# Altium integrated library Analog Devices Data Converters Digital-to-Analog Converters.IntLib: 2231 symbols (part 115 of 181)
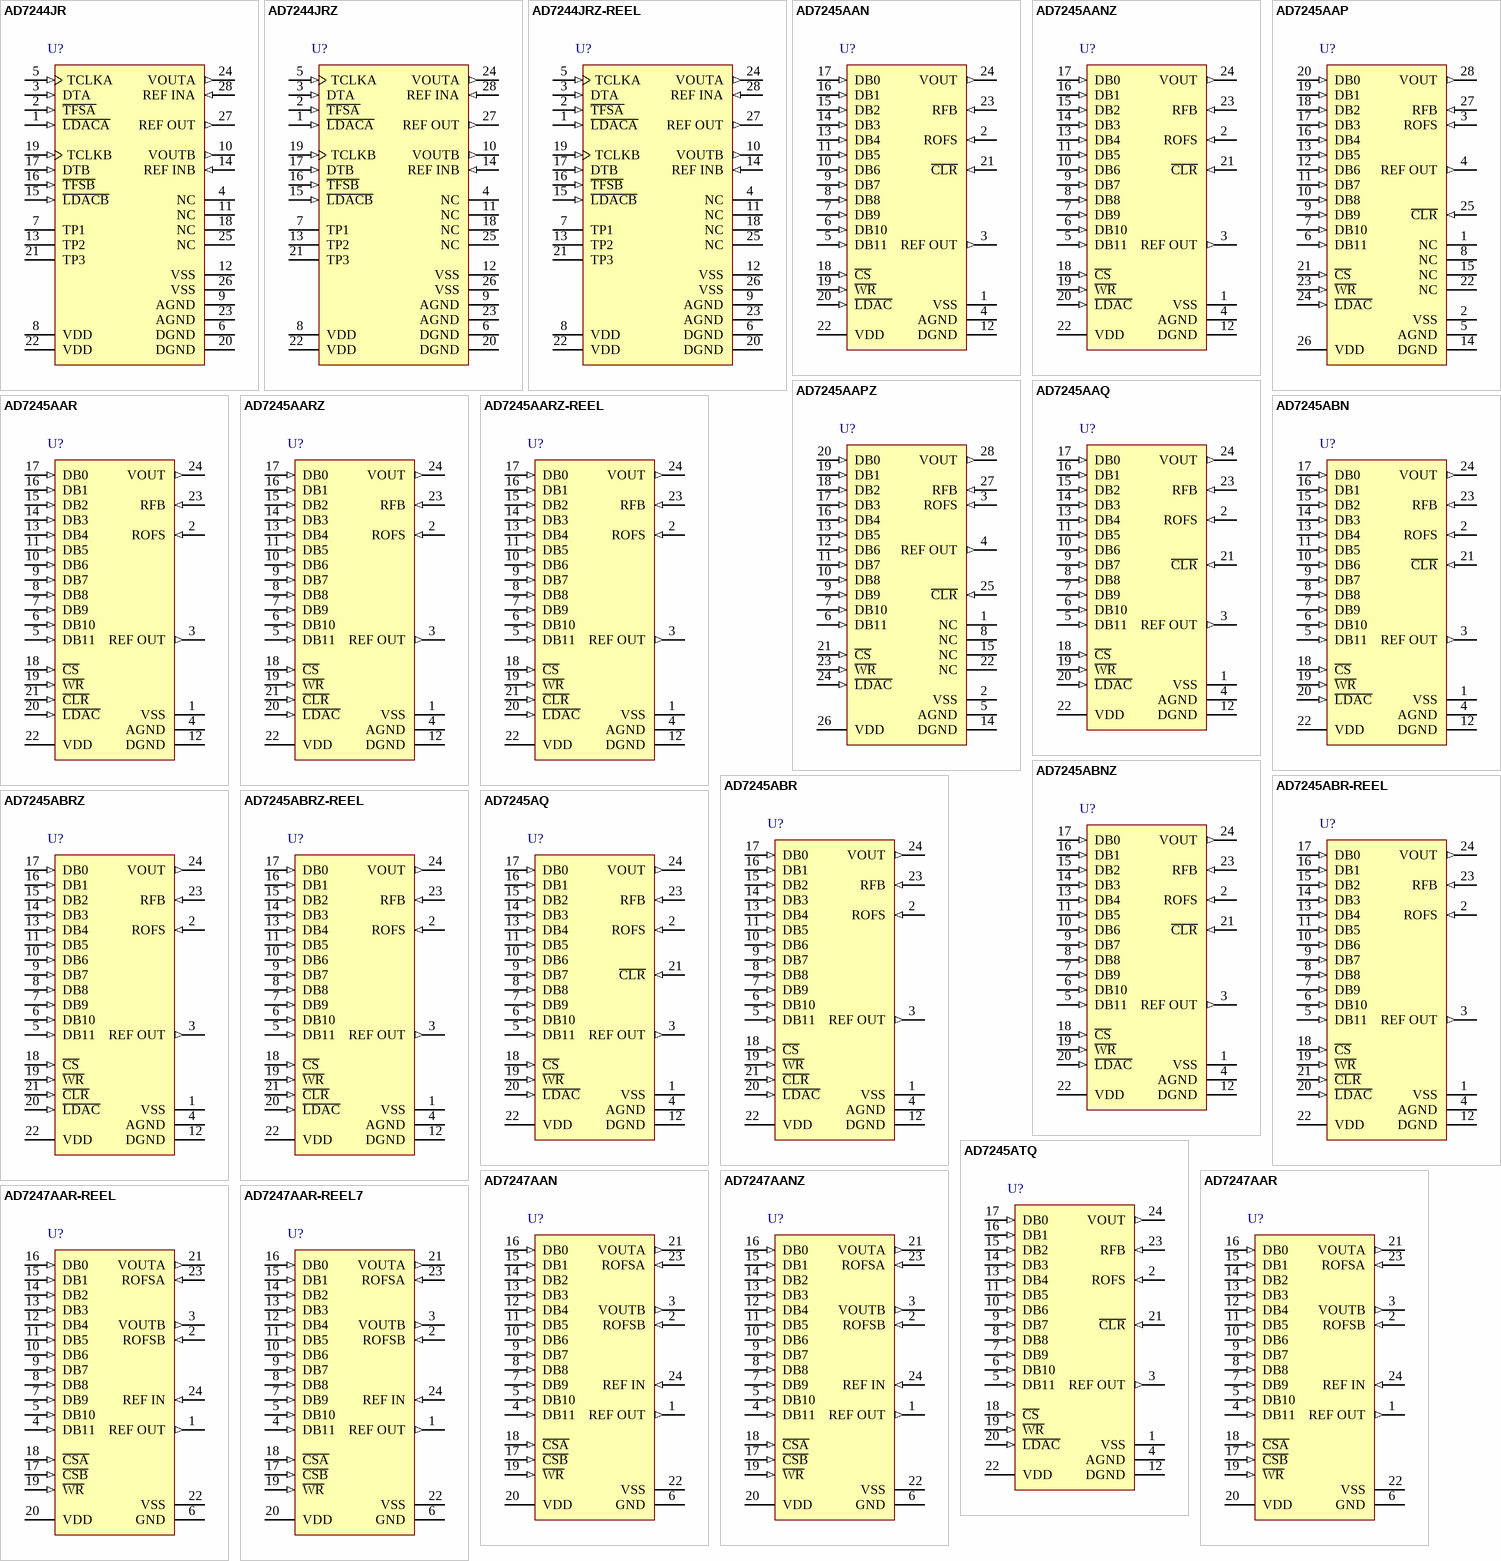
[diagram p228: symbols AD7244JR to AD7247AAR-REEL7]

## AD7244JRZ-REEL
designator U?
Dual 14-Bit LC2MOS Digital-to-Analog Converter, 0 to +70 degC, RW-28, Pb-Free, Reel; Generic Part Number: AD7244; Manufacturer: Analog Devices; PartNumber: AD7244JRZ-REEL; # DAC Outputs: 2; Max V+: 5.25V; Op Pwr Diss: 195mW; Resolution (Bits): 14; Settling Time: 4µs; Single Supply: No; DatasheetVersion: Rev.A; PackageVersion: 060706-A; PackageReference: RW-28; PackageDescription: 28-Lead Standard Small Outline Package [SOIC_W]; Supplier 1: Digi-Key; Supplier Part Number 1: AD7244JRZ-REEL-ND; Supplier 2: Mouser; Supplier Part Number 2: 584-AD7244JRZ-R; Packing: Reel; RoHS: Y; Mounting Technology: Surface Mount; Code_JEDEC: MS-013-AE; ComponentLink1Description: Manufacturer URL; ComponentLink1URL: http://www.analog.com/en/index.html; ComponentLink2Description: Datasheet; ComponentLink2URL: http://www.analog.com/static/imported-files/data_sheets/AD7242_7244.pdf; ComponentLink3Description: Product URL; ComponentLink3URL: http://www.analog.com/en/digital-to-analog-converters/da-converters/ad7244/products/product.html
footprint RW-28_N (SOIC, 28-Leads, Body 17.9x7.5mm, Pitch 1.27mm, IPC Medium Density)
footprint RW-28_L (SOIC, 28-Leads, Body 17.9x7.5mm, Pitch 1.27mm, IPC High Density)
footprint RW-28_M (SOIC, 28-Leads, Body 17.9x7.5mm, Pitch 1.27mm, IPC Low Density)
pins: 1 ~{LDACA} (in) "Load DAC, Logic Input. A new word is transferred into DAC Latch A from input Latch A on the falling edge of this signal. If L\D\A\C\A\ is hard-wired low, data is transferred from input Latch A to DAC Latch A on the sixteenth (See Datasheet)", 2 ~{TFSA} (in) "Transmit Frame Synchronization, Logic Input. This is a frame or synchronization signal for DACA data with serial data expected after the falling edge of this signal.", 3 DTA (in) "Transmit Data, Logic Input. This is the data input which is used in conjunction with T\F\S\A\ and TCLKA to transfer serial data to input Latch A.", 4 NC "No Connect.", 5 TCLKA (in) "Transmit Clock, Logic Input. Serial data bits for DACA are latched on the falling edge of TCLKA when T\F\S\A\ is low.", 6 DGND (power) "Digital Ground. Both DGND pins for the device must be tied together at the device.", 7 TP1 "Test Pin 1. Used when testing the device. Do not connect anything to this pin.", 8 VDD (power) "Positive Power Supply, 5 V +/- 5%. Both VDD pins for the device must be tied together at the device.", 9 AGND (power) "Analog Ground. Both AGND pins for the device must be tied together at the device.", 10 VOUTB (out) "Analog Output Voltage from DACB. This output comes from a buffer amplifier. The range is bipolar, +/-3 V with REF INB = +3 V.", 11 NC "No Connect.", 12 VSS (power) "Negative Power Supply, -5 V +/- 5%. Both VSS pins for the device must be tied together at the device.", 13 TP2 "Test Pin 2. Used when testing the device. Do not connect anything to this pin.", 14 REF INB (in) "DACB Voltage Reference Input. The voltage reference for DACB is applied to this pin. It is internally buffered before being applied to DACB. The nominal reference voltage for correct operation of the AD7244 is 3 V.", 15 ~{LDACB} (in) "Load DAC, Logic Input. A new word is transferred into DAC Latch B from input Latch B on the falling edge of this signal. If L\D\A\C\B\ is hard-wired low, data is transferred from input Latch B to DAC Latch B on the sixteenth (See Datasheet)", 16 ~{TFSB} (in) "Transmit Frame Synchronization, Logic Input. This is a frame or synchronization signal for DACB data with serial data expected after the falling edge of this signal.", 17 DTB (in) "Transmit Data, Logic Input. This is the data input used in conjunction with T\F\S\B\ and TCLKB to transfer serial data to input Latch B.", 18 NC "No Connect.", 19 TCLKB (in) "Transmit Clock, Logic Input. Serial data bits for DACB are latched on the falling edge of TCLKB when T\F\S\B\ is low.", 20 DGND (power) "Digital Ground. Both DGND pins for the device must be tied together at the device.", 21 TP3 "Test Pin 3. Used when testing the device. Do not connect anything to this pin.", 22 VDD (power) "Positive Power Supply, 5 V +/- 5%. Both VDD pins for the device must be tied together at the device", 23 AGND (power) "Analog Ground. Both AGND pins for the device must be tied together at the device.", 24 VOUTA (out) "Analog Output Voltage from DACA. This output comes from a buffer amplifier. The range is bipolar, +/-3 V with REF INA = +3 V.", 25 NC "No Connect.", 26 VSS (power) "Negative Power Supply, -5 V +/- 5%. Both VSS pins for the device must be tied together at the device.", 27 REF OUT (out) "Voltage Reference Output. To operate the DACs with this internal reference, REF OUT should be connected to both REF INA and REF INB. The external load capability of the reference is 500 uA.", 28 REF INA (in) "DACA Voltage Reference Input. The voltage reference for DACA is applied to this pin. It is internally buffered before being applied to DACA. The nominal reference voltage for correct operation of the AD7244 is 3 V."

## AD7245AAN
designator U?
Single 12-Bit LC2MOS DACPORT, -40 to +85 degC, N-24-1, Tube; Generic Part Number: AD7245A; Manufacturer: Analog Devices; PartNumber: AD7245AAN; # DAC Outputs: 1; Max V+: +16.5V; Resolution (Bits): 12; Settling Time: 7µs; Single Supply: Yes; DatasheetVersion: Rev.B; PackageVersion: 071006-A; PackageReference: N-24-1; PackageDescription: 24-Lead Plastic Dual In-Line Package [PDIP] Narrow Body; Supplier 1: Digi-Key; Supplier Part Number 1: AD7245AAN-ND; Supplier 2: Mouser; Supplier Part Number 2: 584-AD7245AAN; Packing: Tube; RoHS: N; Mounting Technology: Through Hole; Code_JEDEC: MS-001; ComponentLink1Description: Manufacturer URL; ComponentLink1URL: http://www.analog.com/en/index.html; ComponentLink2Description: Datasheet; ComponentLink2URL: http://www.analog.com/static/imported-files/data_sheets/AD7245A_7248A.pdf; ComponentLink3Description: Package Specification; ComponentLink3URL: http://www.analog.com/static/imported-files/packages/50726455539629N_24_1.pdf; ComponentLink4Description: Product URL; ComponentLink4URL: http://www.analog.com/en/digital-to-analog-converters/da-converters/ad7245a/products/product.html
footprint N-24-1 (DIP, 24-Leads, Row Spacing 7.62mm, Pitch 2.54mm, Body 31.9x6.6mm)
pins: 1 VSS (power) "Negative Supply Voltage (0 V for single supply operation).", 2 ROFS (in) "Bipolar Offset Resistor. This provides access to the on-chip application resistors and allows different output voltage ranges.", 3 REF OUT (out) "Reference Output. The on-chip reference is provided at this pin and is used when configuring the part for bipolar outputs.", 4 AGND (power) "Analog Ground.", 5 DB11 (in) "Data Bit 11. Most Significant Bit (MSB).", 6 DB10 (in) "Data Bit 10", 7 DB9 (in) "Data Bit 9", 8 DB8 (in) "Data Bit 8", 9 DB7 (in) "Data Bit 7", 10 DB6 (in) "Data Bit 6", 11 DB5 (in) "Data Bit 5", 12 DGND (power) "Digital Ground.", 13 DB4 (in) "Data Bit 4", 14 DB3 (in) "Data Bit 3", 15 DB2 (in) "Data Bit 2", 16 DB1 (in) "Data Bit 1", 17 DB0 (in) "Data Bit 0. Least Significant Bit (LSB).", 18 ~{CS} (in) "Chip Select Input (Active LOW). The device is selected when this input is active.", 19 ~{WR} (in) "Write Input (Active LOW). This is used in conjunction with C\S\ to write data into the input latch of the AD7245A.", 20 ~{LDAC} (in) "Load DAC Input (Active LOW). This is an asynchronous input which when active transfers data from the input latch to the DAC latch.", 21 ~{CLR} (in) "Clear Input (Active LOW). When this input is active the contents of the DAC latch are reset to all 0s.", 22 VDD (power) "Positive Supply Voltage.", 23 RFB (in) "Feedback Resistor. This allows access to the amplifier’s feedback loop.", 24 VOUT (out) "Output Voltage. Three different output voltage ranges can be chosen: 0 V to 5 V, 0 V to 10 V or -5 V to +5 V."

## AD7245AANZ
designator U?
Single 12-Bit LC2MOS DACPORT, -40 to +85 degC, N-24-1, Pb-Free, Tube; Generic Part Number: AD7245A; Manufacturer: Analog Devices; PartNumber: AD7245AANZ; # DAC Outputs: 1; Max V+: +16.5V; Resolution (Bits): 12; Settling Time: 7µs; Single Supply: Yes; DatasheetVersion: Rev.B; PackageVersion: 071006-A; PackageReference: N-24-1; PackageDescription: 24-Lead Plastic Dual In-Line Package [PDIP] Narrow Body; Supplier 1: Digi-Key; Supplier Part Number 1: AD7245AANZ-ND; Supplier 2: Farnell; Supplier Part Number 2: 1438393; Supplier 3: Newark; Supplier Part Number 3: 59K4615; Supplier 4: Mouser; Supplier Part Number 4: 584-AD7245AANZ; Packing: Tube; RoHS: Y; Mounting Technology: Through Hole; Code_JEDEC: MS-001; ComponentLink1Description: Manufacturer URL; ComponentLink1URL: http://www.analog.com/en/index.html; ComponentLink2Description: Datasheet; ComponentLink2URL: http://www.analog.com/static/imported-files/data_sheets/AD7245A_7248A.pdf; ComponentLink3Description: Package Specification; ComponentLink3URL: http://www.analog.com/static/imported-files/packages/50726455539629N_24_1.pdf; ComponentLink4Description: Product URL; ComponentLink4URL: http://www.analog.com/en/digital-to-analog-converters/da-converters/ad7245a/products/product.html
footprint N-24-1 (DIP, 24-Leads, Row Spacing 7.62mm, Pitch 2.54mm, Body 31.9x6.6mm)
pins: 1 VSS (power) "Negative Supply Voltage (0 V for single supply operation).", 2 ROFS (in) "Bipolar Offset Resistor. This provides access to the on-chip application resistors and allows different output voltage ranges.", 3 REF OUT (out) "Reference Output. The on-chip reference is provided at this pin and is used when configuring the part for bipolar outputs.", 4 AGND (power) "Analog Ground.", 5 DB11 (in) "Data Bit 11. Most Significant Bit (MSB).", 6 DB10 (in) "Data Bit 10", 7 DB9 (in) "Data Bit 9", 8 DB8 (in) "Data Bit 8", 9 DB7 (in) "Data Bit 7", 10 DB6 (in) "Data Bit 6", 11 DB5 (in) "Data Bit 5", 12 DGND (power) "Digital Ground.", 13 DB4 (in) "Data Bit 4", 14 DB3 (in) "Data Bit 3", 15 DB2 (in) "Data Bit 2", 16 DB1 (in) "Data Bit 1", 17 DB0 (in) "Data Bit 0. Least Significant Bit (LSB).", 18 ~{CS} (in) "Chip Select Input (Active LOW). The device is selected when this input is active.", 19 ~{WR} (in) "Write Input (Active LOW). This is used in conjunction with C\S\ to write data into the input latch of the AD7245A.", 20 ~{LDAC} (in) "Load DAC Input (Active LOW). This is an asynchronous input which when active transfers data from the input latch to the DAC latch.", 21 ~{CLR} (in) "Clear Input (Active LOW). When this input is active the contents of the DAC latch are reset to all 0s.", 22 VDD (power) "Positive Supply Voltage.", 23 RFB (in) "Feedback Resistor. This allows access to the amplifier’s feedback loop.", 24 VOUT (out) "Output Voltage. Three different output voltage ranges can be chosen: 0 V to 5 V, 0 V to 10 V or -5 V to +5 V."

## AD7245AAP
designator U?
Single 12-Bit LC2MOS DACPORT, -40 to +85 degC, P-28, Tube; Generic Part Number: AD7245A; Manufacturer: Analog Devices; PartNumber: AD7245AAP; # DAC Outputs: 1; Max V+: +16.5V; Resolution (Bits): 12; Settling Time: 7µs; Single Supply: Yes; DatasheetVersion: Rev.B; PackageVersion: 042508-A; PackageReference: P-28; PackageDescription: 28-Lead Plastic Leaded Chip Carrier [PLCC]; Supplier 1: Digi-Key; Supplier Part Number 1: AD7245AAP-ND; Supplier 2: Mouser; Supplier Part Number 2: 584-AD7245AAP; Packing: Tube; RoHS: N; Mounting Technology: Surface Mount; Code_JEDEC: MO-047-AB; ComponentLink1Description: Manufacturer URL; ComponentLink1URL: http://www.analog.com/en/index.html; ComponentLink2Description: Datasheet; ComponentLink2URL: http://www.analog.com/static/imported-files/data_sheets/AD7245A_7248A.pdf; ComponentLink3Description: Package Specification; ComponentLink3URL: http://www.analog.com/static/imported-files/packages/PKG_PDF/PLCC(P)/P_28.pdf; ComponentLink4Description: Product URL; ComponentLink4URL: http://www.analog.com/en/digital-to-analog-converters/da-converters/ad7245a/products/product.html
footprint P-28_N (Leaded Chip Carrier, 28-Leads, Body 11.5x11.5mm, Pitch 1.27mm, IPC Medium Density)
footprint P-28_L (Leaded Chip Carrier, 28-Leads, Body 11.5x11.5mm, Pitch 1.27mm, IPC High Density)
footprint P-28_M (Leaded Chip Carrier, 28-Leads, Body 11.5x11.5mm, Pitch 1.27mm, IPC Low Density)
pins: 1 NC "No Connect.", 2 VSS (power) "Negative Supply Voltage (0 V for single supply operation).", 3 ROFS (in) "Bipolar Offset Resistor. This provides access to the on-chip application resistors and allows different output voltage ranges.", 4 REF OUT (out) "Reference Output. The on-chip reference is provided at this pin and is used when configuring the part for bipolar outputs.", 5 AGND (power) "Analog Ground.", 6 DB11 (in) "Data Bit 11. Most Significant Bit (MSB).", 7 DB10 (in) "Data Bit 10.", 8 NC "No Connect.", 9 DB9 (in) "Data Bit 9.", 10 DB8 (in) "Data Bit 8.", 11 DB7 (in) "Data Bit 7.", 12 DB6 (in) "Data Bit 6.", 13 DB5 (in) "Data Bit 5.", 14 DGND (power) "Digital Ground.", 15 NC "No Connect.", 16 DB4 (in) "Data Bit 4", 17 DB3 (in) "Data Bit 3", 18 DB2 (in) "Data Bit 2", 19 DB1 (in) "Data Bit 1", 20 DB0 (in) "Data Bit 0. Least Significant Bit (LSB).", 21 ~{CS} (in) "Chip Select Input (Active LOW). The device is selected when this input is active.", 22 NC "No Connect.", 23 ~{WR} (in) "Write Input (Active LOW). This is used in conjunction with C\S\ to write data into the input latch of the AD7245A.", 24 ~{LDAC} (in) "Load DAC Input (Active LOW). This is an asynchronous input which when active transfers data from the input latch to the DAC latch.", 25 ~{CLR} (in) "Clear Input (Active LOW). When this input is active the contents of the DAC latch are reset to all 0s.", 26 VDD (power) "Positive Supply Voltage.", 27 RFB (in) "Feedback Resistor. This allows access to the amplifier’s feedback loop.", 28 VOUT (out) "Output Voltage. Three different output voltage ranges can be chosen: 0 V to 5 V, 0 V to 10 V or -5 V to +5 V."

## AD7245AAPZ
designator U?
Single 12-Bit LC2MOS DACPORT, -40 to +85 degC, P-28, Pb-Free, Tube; Generic Part Number: AD7245A; Manufacturer: Analog Devices; PartNumber: AD7245AAPZ; # DAC Outputs: 1; Max V+: +16.5V; Resolution (Bits): 12; Settling Time: 7µs; Single Supply: Yes; DatasheetVersion: Rev.B; PackageVersion: 042508-A; PackageReference: P-28; PackageDescription: 28-Lead Plastic Leaded Chip Carrier [PLCC]; Supplier 1: Digi-Key; Supplier Part Number 1: AD7245AAPZ-ND; Supplier 2: Farnell; Supplier Part Number 2: 1438394; Supplier 3: Newark; Supplier Part Number 3: 12M8738; Supplier 4: Mouser; Supplier Part Number 4: 584-AD7245AAPZ; Packing: Tube; RoHS: Y; Mounting Technology: Surface Mount; Code_JEDEC: MO-047-AB; ComponentLink1Description: Manufacturer URL; ComponentLink1URL: http://www.analog.com/en/index.html; ComponentLink2Description: Datasheet; ComponentLink2URL: http://www.analog.com/static/imported-files/data_sheets/AD7245A_7248A.pdf; ComponentLink3Description: Package Specification; ComponentLink3URL: http://www.analog.com/static/imported-files/packages/PKG_PDF/PLCC(P)/P_28.pdf; ComponentLink4Description: Product URL; ComponentLink4URL: http://www.analog.com/en/digital-to-analog-converters/da-converters/ad7245a/products/product.html
footprint P-28_N (Leaded Chip Carrier, 28-Leads, Body 11.5x11.5mm, Pitch 1.27mm, IPC Medium Density)
footprint P-28_L (Leaded Chip Carrier, 28-Leads, Body 11.5x11.5mm, Pitch 1.27mm, IPC High Density)
footprint P-28_M (Leaded Chip Carrier, 28-Leads, Body 11.5x11.5mm, Pitch 1.27mm, IPC Low Density)
pins: 1 NC "No Connect.", 2 VSS (power) "Negative Supply Voltage (0 V for single supply operation).", 3 ROFS (in) "Bipolar Offset Resistor. This provides access to the on-chip application resistors and allows different output voltage ranges.", 4 REF OUT (out) "Reference Output. The on-chip reference is provided at this pin and is used when configuring the part for bipolar outputs.", 5 AGND (power) "Analog Ground.", 6 DB11 (in) "Data Bit 11. Most Significant Bit (MSB).", 7 DB10 (in) "Data Bit 10.", 8 NC "No Connect.", 9 DB9 (in) "Data Bit 9.", 10 DB8 (in) "Data Bit 8.", 11 DB7 (in) "Data Bit 7.", 12 DB6 (in) "Data Bit 6.", 13 DB5 (in) "Data Bit 5.", 14 DGND (power) "Digital Ground.", 15 NC "No Connect.", 16 DB4 (in) "Data Bit 4", 17 DB3 (in) "Data Bit 3", 18 DB2 (in) "Data Bit 2", 19 DB1 (in) "Data Bit 1", 20 DB0 (in) "Data Bit 0. Least Significant Bit (LSB).", 21 ~{CS} (in) "Chip Select Input (Active LOW). The device is selected when this input is active.", 22 NC "No Connect.", 23 ~{WR} (in) "Write Input (Active LOW). This is used in conjunction with C\S\ to write data into the input latch of the AD7245A.", 24 ~{LDAC} (in) "Load DAC Input (Active LOW). This is an asynchronous input which when active transfers data from the input latch to the DAC latch.", 25 ~{CLR} (in) "Clear Input (Active LOW). When this input is active the contents of the DAC latch are reset to all 0s.", 26 VDD (power) "Positive Supply Voltage.", 27 RFB (in) "Feedback Resistor. This allows access to the amplifier’s feedback loop.", 28 VOUT (out) "Output Voltage. Three different output voltage ranges can be chosen: 0 V to 5 V, 0 V to 10 V or -5 V to +5 V."

## AD7245AAQ
designator U?
Single 12-Bit LC2MOS DACPORT, -40 to +85 degC, Q-24-1, Tube; Generic Part Number: AD7245A; Manufacturer: Analog Devices; PartNumber: AD7245AAQ; # DAC Outputs: 1; Max V+: +16.5V; Resolution (Bits): 12; Settling Time: 7µs; Single Supply: Yes; DatasheetVersion: Rev.B; PackageVersion: 100808-A; PackageReference: Q-24-1; PackageDescription: 24-Lead Ceramic Dual In-Line Package [CERDIP]; Supplier 1: Digi-Key; Supplier Part Number 1: AD7245AAQ-ND; Supplier 2: Mouser; Supplier Part Number 2: 584-AD7245AAQ; Packing: Tube; RoHS: N; Mounting Technology: Through Hole; ComponentLink1Description: Manufacturer URL; ComponentLink1URL: http://www.analog.com/en/index.html; ComponentLink2Description: Datasheet; ComponentLink2URL: http://www.analog.com/static/imported-files/data_sheets/AD7245A_7248A.pdf; ComponentLink3Description: Package Specification; ComponentLink3URL: http://www.analog.com/static/imported-files/packages/PKG_PDF/CERDIP(Q)/Q_24_1.pdf; ComponentLink4Description: Product URL; ComponentLink4URL: http://www.analog.com/en/digital-to-analog-converters/da-converters/ad7245a/products/product.html
footprint Q-24-1 (DIP, 24-Leads, Row Spacing 7.62mm, Pitch 2.54mm, Body 31.9x6.7mm)
pins: 1 VSS (power) "Negative Supply Voltage (0 V for single supply operation).", 2 ROFS (in) "Bipolar Offset Resistor. This provides access to the on-chip application resistors and allows different output voltage ranges.", 3 REF OUT (out) "Reference Output. The on-chip reference is provided at this pin and is used when configuring the part for bipolar outputs.", 4 AGND (power) "Analog Ground.", 5 DB11 (in) "Data Bit 11. Most Significant Bit (MSB).", 6 DB10 (in) "Data Bit 10", 7 DB9 (in) "Data Bit 9", 8 DB8 (in) "Data Bit 8", 9 DB7 (in) "Data Bit 7", 10 DB6 (in) "Data Bit 6", 11 DB5 (in) "Data Bit 5", 12 DGND (power) "Digital Ground.", 13 DB4 (in) "Data Bit 4", 14 DB3 (in) "Data Bit 3", 15 DB2 (in) "Data Bit 2", 16 DB1 (in) "Data Bit 1", 17 DB0 (in) "Data Bit 0. Least Significant Bit (LSB).", 18 ~{CS} (in) "Chip Select Input (Active LOW). The device is selected when this input is active.", 19 ~{WR} (in) "Write Input (Active LOW). This is used in conjunction with C\S\ to write data into the input latch of the AD7245A.", 20 ~{LDAC} (in) "Load DAC Input (Active LOW). This is an asynchronous input which when active transfers data from the input latch to the DAC latch.", 21 ~{CLR} (in) "Clear Input (Active LOW). When this input is active the contents of the DAC latch are reset to all 0s.", 22 VDD (power) "Positive Supply Voltage.", 23 RFB (in) "Feedback Resistor. This allows access to the amplifier’s feedback loop.", 24 VOUT (out) "Output Voltage. Three different output voltage ranges can be chosen: 0 V to 5 V, 0 V to 10 V or -5 V to +5 V."

## AD7245AAR
designator U?
Single 12-Bit LC2MOS DACPORT, -40 to +85 degC, RW-24, Tube; Generic Part Number: AD7245A; Manufacturer: Analog Devices; PartNumber: AD7245AAR; # DAC Outputs: 1; Max V+: +16.5V; Resolution (Bits): 12; Settling Time: 7µs; Single Supply: Yes; DatasheetVersion: Rev.B; PackageVersion: 060706-A; PackageReference: RW-24; PackageDescription: 24-Lead Standard Small Outline Package [SOIC_W]; Supplier 1: Digi-Key; Supplier Part Number 1: AD7245AAR-ND; Supplier 2: Mouser; Supplier Part Number 2: 584-AD7245AAR; Packing: Tube; RoHS: N; Mounting Technology: Surface Mount; Code_JEDEC: MS-013-AD; ComponentLink1Description: Manufacturer URL; ComponentLink1URL: http://www.analog.com/en/index.html; ComponentLink2Description: Datasheet; ComponentLink2URL: http://www.analog.com/static/imported-files/data_sheets/AD7245A_7248A.pdf; ComponentLink3Description: Package Specification; ComponentLink3URL: http://www.analog.com/static/imported-files/packages/33665150946139RW_24.pdf; ComponentLink4Description: Product URL; ComponentLink4URL: http://www.analog.com/en/digital-to-analog-converters/da-converters/ad7245a/products/product.html
footprint RW-24_N (SOIC, 24-Leads, Body 15.4x7.5mm, Pitch 1.27mm, IPC Medium Density)
footprint RW-24_L (SOIC, 24-Leads, Body 15.4x7.5mm, Pitch 1.27mm, IPC High Density)
footprint RW-24_M (SOIC, 24-Leads, Body 15.4x7.5mm, Pitch 1.27mm, IPC Low Density)
pins: 1 VSS (power) "Negative Supply Voltage (0 V for single supply operation).", 2 ROFS (in) "Bipolar Offset Resistor. This provides access to the on-chip application resistors and allows different output voltage ranges.", 3 REF OUT (out) "Reference Output. The on-chip reference is provided at this pin and is used when configuring the part for bipolar outputs.", 4 AGND (power) "Analog Ground.", 5 DB11 (in) "Data Bit 11. Most Significant Bit (MSB).", 6 DB10 (in) "Data Bit 10", 7 DB9 (in) "Data Bit 9", 8 DB8 (in) "Data Bit 8", 9 DB7 (in) "Data Bit 7", 10 DB6 (in) "Data Bit 6", 11 DB5 (in) "Data Bit 5", 12 DGND (power) "Digital Ground.", 13 DB4 (in) "Data Bit 4", 14 DB3 (in) "Data Bit 3", 15 DB2 (in) "Data Bit 2", 16 DB1 (in) "Data Bit 1", 17 DB0 (in) "Data Bit 0. Least Significant Bit (LSB).", 18 ~{CS} (in) "Chip Select Input (Active LOW). The device is selected when this input is active.", 19 ~{WR} (in) "Write Input (Active LOW). This is used in conjunction with C\S\ to write data into the input latch of the AD7245A.", 20 ~{LDAC} (in) "Load DAC Input (Active LOW). This is an asynchronous input which when active transfers data from the input latch to the DAC latch.", 21 ~{CLR} (in) "Clear Input (Active LOW). When this input is active the contents of the DAC latch are reset to all 0s.", 22 VDD (power) "Positive Supply Voltage.", 23 RFB (in) "Feedback Resistor. This allows access to the amplifier's feedback loop.", 24 VOUT (out) "Output Voltage. Three different output voltage ranges can be chosen: 0 V to 5 V, 0 V to 10 V or -5 V to +5 V."

## AD7245AARZ
designator U?
Single 12-Bit LC2MOS DACPORT, -40 to +85 degC, RW-24, Pb-Free, Tube; Generic Part Number: AD7245A; Manufacturer: Analog Devices; PartNumber: AD7245AARZ; # DAC Outputs: 1; Max V+: +16.5V; Resolution (Bits): 12; Settling Time: 7µs; Single Supply: Yes; DatasheetVersion: Rev.B; PackageVersion: 060706-A; PackageReference: RW-24; PackageDescription: 24-Lead Standard Small Outline Package [SOIC_W]; Supplier 1: Digi-Key; Supplier Part Number 1: AD7245AARZ-ND; Supplier 2: Newark; Supplier Part Number 2: 59K4616; Supplier 3: Mouser; Supplier Part Number 3: 584-AD7245AARZ; Packing: Tube; RoHS: Y; Mounting Technology: Surface Mount; Code_JEDEC: MS-013-AD; ComponentLink1Description: Manufacturer URL; ComponentLink1URL: http://www.analog.com/en/index.html; ComponentLink2Description: Datasheet; ComponentLink2URL: http://www.analog.com/static/imported-files/data_sheets/AD7245A_7248A.pdf; ComponentLink3Description: Package Specification; ComponentLink3URL: http://www.analog.com/static/imported-files/packages/33665150946139RW_24.pdf; ComponentLink4Description: Product URL; ComponentLink4URL: http://www.analog.com/en/digital-to-analog-converters/da-converters/ad7245a/products/product.html
footprint RW-24_N (SOIC, 24-Leads, Body 15.4x7.5mm, Pitch 1.27mm, IPC Medium Density)
footprint RW-24_L (SOIC, 24-Leads, Body 15.4x7.5mm, Pitch 1.27mm, IPC High Density)
footprint RW-24_M (SOIC, 24-Leads, Body 15.4x7.5mm, Pitch 1.27mm, IPC Low Density)
pins: 1 VSS (power) "Negative Supply Voltage (0 V for single supply operation).", 2 ROFS (in) "Bipolar Offset Resistor. This provides access to the on-chip application resistors and allows different output voltage ranges.", 3 REF OUT (out) "Reference Output. The on-chip reference is provided at this pin and is used when configuring the part for bipolar outputs.", 4 AGND (power) "Analog Ground.", 5 DB11 (in) "Data Bit 11. Most Significant Bit (MSB).", 6 DB10 (in) "Data Bit 10", 7 DB9 (in) "Data Bit 9", 8 DB8 (in) "Data Bit 8", 9 DB7 (in) "Data Bit 7", 10 DB6 (in) "Data Bit 6", 11 DB5 (in) "Data Bit 5", 12 DGND (power) "Digital Ground.", 13 DB4 (in) "Data Bit 4", 14 DB3 (in) "Data Bit 3", 15 DB2 (in) "Data Bit 2", 16 DB1 (in) "Data Bit 1", 17 DB0 (in) "Data Bit 0. Least Significant Bit (LSB).", 18 ~{CS} (in) "Chip Select Input (Active LOW). The device is selected when this input is active.", 19 ~{WR} (in) "Write Input (Active LOW). This is used in conjunction with C\S\ to write data into the input latch of the AD7245A.", 20 ~{LDAC} (in) "Load DAC Input (Active LOW). This is an asynchronous input which when active transfers data from the input latch to the DAC latch.", 21 ~{CLR} (in) "Clear Input (Active LOW). When this input is active the contents of the DAC latch are reset to all 0s.", 22 VDD (power) "Positive Supply Voltage.", 23 RFB (in) "Feedback Resistor. This allows access to the amplifier's feedback loop.", 24 VOUT (out) "Output Voltage. Three different output voltage ranges can be chosen: 0 V to 5 V, 0 V to 10 V or -5 V to +5 V."

## AD7245AARZ-REEL
designator U?
Single 12-Bit LC2MOS DACPORT, -40 to +85 degC, RW-24, Pb-Free, Reel; Generic Part Number: AD7245A; Manufacturer: Analog Devices; PartNumber: AD7245AARZ-REEL; # DAC Outputs: 1; Max V+: +16.5V; Resolution (Bits): 12; Settling Time: 7µs; Single Supply: Yes; DatasheetVersion: Rev.B; PackageVersion: 060706-A; PackageReference: RW-24; PackageDescription: 24-Lead Standard Small Outline Package [SOIC_W]; Supplier 1: Digi-Key; Supplier Part Number 1: AD7245AARZ-REEL-ND; Supplier 2: Mouser; Supplier Part Number 2: 584-AD7245AARZ-R; Packing: Reel; RoHS: Y; Mounting Technology: Surface Mount; Code_JEDEC: MS-013-AD; ComponentLink1Description: Manufacturer URL; ComponentLink1URL: http://www.analog.com/en/index.html; ComponentLink2Description: Datasheet; ComponentLink2URL: http://www.analog.com/static/imported-files/data_sheets/AD7245A_7248A.pdf; ComponentLink3Description: Package Specification; ComponentLink3URL: http://www.analog.com/static/imported-files/packages/33665150946139RW_24.pdf; ComponentLink4Description: Product URL; ComponentLink4URL: http://www.analog.com/en/digital-to-analog-converters/da-converters/ad7245a/products/product.html
footprint RW-24_N (SOIC, 24-Leads, Body 15.4x7.5mm, Pitch 1.27mm, IPC Medium Density)
footprint RW-24_L (SOIC, 24-Leads, Body 15.4x7.5mm, Pitch 1.27mm, IPC High Density)
footprint RW-24_M (SOIC, 24-Leads, Body 15.4x7.5mm, Pitch 1.27mm, IPC Low Density)
pins: 1 VSS (power) "Negative Supply Voltage (0 V for single supply operation).", 2 ROFS (in) "Bipolar Offset Resistor. This provides access to the on-chip application resistors and allows different output voltage ranges.", 3 REF OUT (out) "Reference Output. The on-chip reference is provided at this pin and is used when configuring the part for bipolar outputs.", 4 AGND (power) "Analog Ground.", 5 DB11 (in) "Data Bit 11. Most Significant Bit (MSB).", 6 DB10 (in) "Data Bit 10", 7 DB9 (in) "Data Bit 9", 8 DB8 (in) "Data Bit 8", 9 DB7 (in) "Data Bit 7", 10 DB6 (in) "Data Bit 6", 11 DB5 (in) "Data Bit 5", 12 DGND (power) "Digital Ground.", 13 DB4 (in) "Data Bit 4", 14 DB3 (in) "Data Bit 3", 15 DB2 (in) "Data Bit 2", 16 DB1 (in) "Data Bit 1", 17 DB0 (in) "Data Bit 0. Least Significant Bit (LSB).", 18 ~{CS} (in) "Chip Select Input (Active LOW). The device is selected when this input is active.", 19 ~{WR} (in) "Write Input (Active LOW). This is used in conjunction with C\S\ to write data into the input latch of the AD7245A.", 20 ~{LDAC} (in) "Load DAC Input (Active LOW). This is an asynchronous input which when active transfers data from the input latch to the DAC latch.", 21 ~{CLR} (in) "Clear Input (Active LOW). When this input is active the contents of the DAC latch are reset to all 0s.", 22 VDD (power) "Positive Supply Voltage.", 23 RFB (in) "Feedback Resistor. This allows access to the amplifier's feedback loop.", 24 VOUT (out) "Output Voltage. Three different output voltage ranges can be chosen: 0 V to 5 V, 0 V to 10 V or -5 V to +5 V."

## AD7245ABN
designator U?
Single 12-Bit LC2MOS DACPORT, -40 to +85 degC, N-24-1, Tube; Generic Part Number: AD7245A; Manufacturer: Analog Devices; PartNumber: AD7245ABN; # DAC Outputs: 1; Max V+: +16.5V; Resolution (Bits): 12; Settling Time: 7µs; Single Supply: Yes; DatasheetVersion: Rev.B; PackageVersion: 071006-A; PackageReference: N-24-1; PackageDescription: 24-Lead Plastic Dual In-Line Package [PDIP] Narrow Body; Supplier 1: Digi-Key; Supplier Part Number 1: AD7245ABN-ND; Supplier 2: Mouser; Supplier Part Number 2: 584-AD7245ABN; Packing: Tube; RoHS: N; Mounting Technology: Through Hole; Code_JEDEC: MS-001; ComponentLink1Description: Manufacturer URL; ComponentLink1URL: http://www.analog.com/en/index.html; ComponentLink2Description: Datasheet; ComponentLink2URL: http://www.analog.com/static/imported-files/data_sheets/AD7245A_7248A.pdf; ComponentLink3Description: Package Specification; ComponentLink3URL: http://www.analog.com/static/imported-files/packages/50726455539629N_24_1.pdf; ComponentLink4Description: Product URL; ComponentLink4URL: http://www.analog.com/en/digital-to-analog-converters/da-converters/ad7245a/products/product.html
footprint N-24-1 (DIP, 24-Leads, Row Spacing 7.62mm, Pitch 2.54mm, Body 31.9x6.6mm)
pins: 1 VSS (power) "Negative Supply Voltage (0 V for single supply operation).", 2 ROFS (in) "Bipolar Offset Resistor. This provides access to the on-chip application resistors and allows different output voltage ranges.", 3 REF OUT (out) "Reference Output. The on-chip reference is provided at this pin and is used when configuring the part for bipolar outputs.", 4 AGND (power) "Analog Ground.", 5 DB11 (in) "Data Bit 11. Most Significant Bit (MSB).", 6 DB10 (in) "Data Bit 10", 7 DB9 (in) "Data Bit 9", 8 DB8 (in) "Data Bit 8", 9 DB7 (in) "Data Bit 7", 10 DB6 (in) "Data Bit 6", 11 DB5 (in) "Data Bit 5", 12 DGND (power) "Digital Ground.", 13 DB4 (in) "Data Bit 4", 14 DB3 (in) "Data Bit 3", 15 DB2 (in) "Data Bit 2", 16 DB1 (in) "Data Bit 1", 17 DB0 (in) "Data Bit 0. Least Significant Bit (LSB).", 18 ~{CS} (in) "Chip Select Input (Active LOW). The device is selected when this input is active.", 19 ~{WR} (in) "Write Input (Active LOW). This is used in conjunction with C\S\ to write data into the input latch of the AD7245A.", 20 ~{LDAC} (in) "Load DAC Input (Active LOW). This is an asynchronous input which when active transfers data from the input latch to the DAC latch.", 21 ~{CLR} (in) "Clear Input (Active LOW). When this input is active the contents of the DAC latch are reset to all 0s.", 22 VDD (power) "Positive Supply Voltage.", 23 RFB (in) "Feedback Resistor. This allows access to the amplifier’s feedback loop.", 24 VOUT (out) "Output Voltage. Three different output voltage ranges can be chosen: 0 V to 5 V, 0 V to 10 V or -5 V to +5 V."

## AD7245ABNZ
designator U?
Single 12-Bit LC2MOS DACPORT, -40 to +85 degC, N-24-1, Pb-Free, Tube; Generic Part Number: AD7245A; Manufacturer: Analog Devices; PartNumber: AD7245ABNZ; # DAC Outputs: 1; Max V+: +16.5V; Resolution (Bits): 12; Settling Time: 7µs; Single Supply: Yes; DatasheetVersion: Rev.B; PackageVersion: 071006-A; PackageReference: N-24-1; PackageDescription: 24-Lead Plastic Dual In-Line Package [PDIP] Narrow Body; Supplier 1: Digi-Key; Supplier Part Number 1: AD7245ABNZ-ND; Supplier 2: Newark; Supplier Part Number 2: 59K4618; Supplier 3: Mouser; Supplier Part Number 3: 584-AD7245ABNZ; Packing: Tube; RoHS: Y; Mounting Technology: Through Hole; Code_JEDEC: MS-001; ComponentLink1Description: Manufacturer URL; ComponentLink1URL: http://www.analog.com/en/index.html; ComponentLink2Description: Datasheet; ComponentLink2URL: http://www.analog.com/static/imported-files/data_sheets/AD7245A_7248A.pdf; ComponentLink3Description: Package Specification; ComponentLink3URL: http://www.analog.com/static/imported-files/packages/50726455539629N_24_1.pdf; ComponentLink4Description: Product URL; ComponentLink4URL: http://www.analog.com/en/digital-to-analog-converters/da-converters/ad7245a/products/product.html
footprint N-24-1 (DIP, 24-Leads, Row Spacing 7.62mm, Pitch 2.54mm, Body 31.9x6.6mm)
pins: 1 VSS (power) "Negative Supply Voltage (0 V for single supply operation).", 2 ROFS (in) "Bipolar Offset Resistor. This provides access to the on-chip application resistors and allows different output voltage ranges.", 3 REF OUT (out) "Reference Output. The on-chip reference is provided at this pin and is used when configuring the part for bipolar outputs.", 4 AGND (power) "Analog Ground.", 5 DB11 (in) "Data Bit 11. Most Significant Bit (MSB).", 6 DB10 (in) "Data Bit 10", 7 DB9 (in) "Data Bit 9", 8 DB8 (in) "Data Bit 8", 9 DB7 (in) "Data Bit 7", 10 DB6 (in) "Data Bit 6", 11 DB5 (in) "Data Bit 5", 12 DGND (power) "Digital Ground.", 13 DB4 (in) "Data Bit 4", 14 DB3 (in) "Data Bit 3", 15 DB2 (in) "Data Bit 2", 16 DB1 (in) "Data Bit 1", 17 DB0 (in) "Data Bit 0. Least Significant Bit (LSB).", 18 ~{CS} (in) "Chip Select Input (Active LOW). The device is selected when this input is active.", 19 ~{WR} (in) "Write Input (Active LOW). This is used in conjunction with C\S\ to write data into the input latch of the AD7245A.", 20 ~{LDAC} (in) "Load DAC Input (Active LOW). This is an asynchronous input which when active transfers data from the input latch to the DAC latch.", 21 ~{CLR} (in) "Clear Input (Active LOW). When this input is active the contents of the DAC latch are reset to all 0s.", 22 VDD (power) "Positive Supply Voltage.", 23 RFB (in) "Feedback Resistor. This allows access to the amplifier’s feedback loop.", 24 VOUT (out) "Output Voltage. Three different output voltage ranges can be chosen: 0 V to 5 V, 0 V to 10 V or -5 V to +5 V."

## AD7245ABR
designator U?
Single 12-Bit LC2MOS DACPORT, -40 to +85 degC, RW-24, Tube; Generic Part Number: AD7245A; Manufacturer: Analog Devices; PartNumber: AD7245ABR; # DAC Outputs: 1; Max V+: +16.5V; Resolution (Bits): 12; Settling Time: 7µs; Single Supply: Yes; DatasheetVersion: Rev.B; PackageVersion: 060706-A; PackageReference: RW-24; PackageDescription: 24-Lead Standard Small Outline Package [SOIC_W]; Supplier 1: Digi-Key; Supplier Part Number 1: AD7245ABR-ND; Supplier 2: Mouser; Supplier Part Number 2: 584-AD7245ABR; Packing: Tube; RoHS: N; Mounting Technology: Surface Mount; Code_JEDEC: MS-013-AD; ComponentLink1Description: Manufacturer URL; ComponentLink1URL: http://www.analog.com/en/index.html; ComponentLink2Description: Datasheet; ComponentLink2URL: http://www.analog.com/static/imported-files/data_sheets/AD7245A_7248A.pdf; ComponentLink3Description: Package Specification; ComponentLink3URL: http://www.analog.com/static/imported-files/packages/33665150946139RW_24.pdf; ComponentLink4Description: Product URL; ComponentLink4URL: http://www.analog.com/en/digital-to-analog-converters/da-converters/ad7245a/products/product.html
footprint RW-24_N (SOIC, 24-Leads, Body 15.4x7.5mm, Pitch 1.27mm, IPC Medium Density)
footprint RW-24_L (SOIC, 24-Leads, Body 15.4x7.5mm, Pitch 1.27mm, IPC High Density)
footprint RW-24_M (SOIC, 24-Leads, Body 15.4x7.5mm, Pitch 1.27mm, IPC Low Density)
pins: 1 VSS (power) "Negative Supply Voltage (0 V for single supply operation).", 2 ROFS (in) "Bipolar Offset Resistor. This provides access to the on-chip application resistors and allows different output voltage ranges.", 3 REF OUT (out) "Reference Output. The on-chip reference is provided at this pin and is used when configuring the part for bipolar outputs.", 4 AGND (power) "Analog Ground.", 5 DB11 (in) "Data Bit 11. Most Significant Bit (MSB).", 6 DB10 (in) "Data Bit 10", 7 DB9 (in) "Data Bit 9", 8 DB8 (in) "Data Bit 8", 9 DB7 (in) "Data Bit 7", 10 DB6 (in) "Data Bit 6", 11 DB5 (in) "Data Bit 5", 12 DGND (power) "Digital Ground.", 13 DB4 (in) "Data Bit 4", 14 DB3 (in) "Data Bit 3", 15 DB2 (in) "Data Bit 2", 16 DB1 (in) "Data Bit 1", 17 DB0 (in) "Data Bit 0. Least Significant Bit (LSB).", 18 ~{CS} (in) "Chip Select Input (Active LOW). The device is selected when this input is active.", 19 ~{WR} (in) "Write Input (Active LOW). This is used in conjunction with C\S\ to write data into the input latch of the AD7245A.", 20 ~{LDAC} (in) "Load DAC Input (Active LOW). This is an asynchronous input which when active transfers data from the input latch to the DAC latch.", 21 ~{CLR} (in) "Clear Input (Active LOW). When this input is active the contents of the DAC latch are reset to all 0s.", 22 VDD (power) "Positive Supply Voltage.", 23 RFB (in) "Feedback Resistor. This allows access to the amplifier's feedback loop.", 24 VOUT (out) "Output Voltage. Three different output voltage ranges can be chosen: 0 V to 5 V, 0 V to 10 V or -5 V to +5 V."

## AD7245ABR-REEL
designator U?
Single 12-Bit LC2MOS DACPORT, -40 to +85 degC, RW-24, Reel; Generic Part Number: AD7245A; Manufacturer: Analog Devices; PartNumber: AD7245ABR-REEL; # DAC Outputs: 1; Max V+: +16.5V; Resolution (Bits): 12; Settling Time: 7µs; Single Supply: Yes; DatasheetVersion: Rev.B; PackageVersion: 060706-A; PackageReference: RW-24; PackageDescription: 24-Lead Standard Small Outline Package [SOIC_W]; Supplier 1: Mouser; Supplier Part Number 1: N/A; Packing: Reel; RoHS: N; Mounting Technology: Surface Mount; Code_JEDEC: MS-013-AD; ComponentLink1Description: Manufacturer URL; ComponentLink1URL: http://www.analog.com/en/index.html; ComponentLink2Description: Datasheet; ComponentLink2URL: http://www.analog.com/static/imported-files/data_sheets/AD7245A_7248A.pdf; ComponentLink3Description: Package Specification; ComponentLink3URL: http://www.analog.com/static/imported-files/packages/33665150946139RW_24.pdf; ComponentLink4Description: Product URL; ComponentLink4URL: http://www.analog.com/en/digital-to-analog-converters/da-converters/ad7245a/products/product.html
footprint RW-24_N (SOIC, 24-Leads, Body 15.4x7.5mm, Pitch 1.27mm, IPC Medium Density)
footprint RW-24_L (SOIC, 24-Leads, Body 15.4x7.5mm, Pitch 1.27mm, IPC High Density)
footprint RW-24_M (SOIC, 24-Leads, Body 15.4x7.5mm, Pitch 1.27mm, IPC Low Density)
pins: 1 VSS (power) "Negative Supply Voltage (0 V for single supply operation).", 2 ROFS (in) "Bipolar Offset Resistor. This provides access to the on-chip application resistors and allows different output voltage ranges.", 3 REF OUT (out) "Reference Output. The on-chip reference is provided at this pin and is used when configuring the part for bipolar outputs.", 4 AGND (power) "Analog Ground.", 5 DB11 (in) "Data Bit 11. Most Significant Bit (MSB).", 6 DB10 (in) "Data Bit 10", 7 DB9 (in) "Data Bit 9", 8 DB8 (in) "Data Bit 8", 9 DB7 (in) "Data Bit 7", 10 DB6 (in) "Data Bit 6", 11 DB5 (in) "Data Bit 5", 12 DGND (power) "Digital Ground.", 13 DB4 (in) "Data Bit 4", 14 DB3 (in) "Data Bit 3", 15 DB2 (in) "Data Bit 2", 16 DB1 (in) "Data Bit 1", 17 DB0 (in) "Data Bit 0. Least Significant Bit (LSB).", 18 ~{CS} (in) "Chip Select Input (Active LOW). The device is selected when this input is active.", 19 ~{WR} (in) "Write Input (Active LOW). This is used in conjunction with C\S\ to write data into the input latch of the AD7245A.", 20 ~{LDAC} (in) "Load DAC Input (Active LOW). This is an asynchronous input which when active transfers data from the input latch to the DAC latch.", 21 ~{CLR} (in) "Clear Input (Active LOW). When this input is active the contents of the DAC latch are reset to all 0s.", 22 VDD (power) "Positive Supply Voltage.", 23 RFB (in) "Feedback Resistor. This allows access to the amplifier's feedback loop.", 24 VOUT (out) "Output Voltage. Three different output voltage ranges can be chosen: 0 V to 5 V, 0 V to 10 V or -5 V to +5 V."

## AD7245ABRZ
designator U?
Single 12-Bit LC2MOS DACPORT, -40 to +85 degC, RW-24, Pb-Free, Tube; Generic Part Number: AD7245A; Manufacturer: Analog Devices; PartNumber: AD7245ABRZ; # DAC Outputs: 1; Max V+: +16.5V; Resolution (Bits): 12; Settling Time: 7µs; Single Supply: Yes; DatasheetVersion: Rev.B; PackageVersion: 060706-A; PackageReference: RW-24; PackageDescription: 24-Lead Standard Small Outline Package [SOIC_W]; Supplier 1: Digi-Key; Supplier Part Number 1: AD7245ABRZ-ND; Supplier 2: Newark; Supplier Part Number 2: 59K4619; Supplier 3: Mouser; Supplier Part Number 3: 584-AD7245ABRZ; Packing: Tube; RoHS: Y; Mounting Technology: Surface Mount; Code_JEDEC: MS-013-AD; ComponentLink1Description: Manufacturer URL; ComponentLink1URL: http://www.analog.com/en/index.html; ComponentLink2Description: Datasheet; ComponentLink2URL: http://www.analog.com/static/imported-files/data_sheets/AD7245A_7248A.pdf; ComponentLink3Description: Package Specification; ComponentLink3URL: http://www.analog.com/static/imported-files/packages/33665150946139RW_24.pdf; ComponentLink4Description: Product URL; ComponentLink4URL: http://www.analog.com/en/digital-to-analog-converters/da-converters/ad7245a/products/product.html
footprint RW-24_N (SOIC, 24-Leads, Body 15.4x7.5mm, Pitch 1.27mm, IPC Medium Density)
footprint RW-24_L (SOIC, 24-Leads, Body 15.4x7.5mm, Pitch 1.27mm, IPC High Density)
footprint RW-24_M (SOIC, 24-Leads, Body 15.4x7.5mm, Pitch 1.27mm, IPC Low Density)
pins: 1 VSS (power) "Negative Supply Voltage (0 V for single supply operation).", 2 ROFS (in) "Bipolar Offset Resistor. This provides access to the on-chip application resistors and allows different output voltage ranges.", 3 REF OUT (out) "Reference Output. The on-chip reference is provided at this pin and is used when configuring the part for bipolar outputs.", 4 AGND (power) "Analog Ground.", 5 DB11 (in) "Data Bit 11. Most Significant Bit (MSB).", 6 DB10 (in) "Data Bit 10", 7 DB9 (in) "Data Bit 9", 8 DB8 (in) "Data Bit 8", 9 DB7 (in) "Data Bit 7", 10 DB6 (in) "Data Bit 6", 11 DB5 (in) "Data Bit 5", 12 DGND (power) "Digital Ground.", 13 DB4 (in) "Data Bit 4", 14 DB3 (in) "Data Bit 3", 15 DB2 (in) "Data Bit 2", 16 DB1 (in) "Data Bit 1", 17 DB0 (in) "Data Bit 0. Least Significant Bit (LSB).", 18 ~{CS} (in) "Chip Select Input (Active LOW). The device is selected when this input is active.", 19 ~{WR} (in) "Write Input (Active LOW). This is used in conjunction with C\S\ to write data into the input latch of the AD7245A.", 20 ~{LDAC} (in) "Load DAC Input (Active LOW). This is an asynchronous input which when active transfers data from the input latch to the DAC latch.", 21 ~{CLR} (in) "Clear Input (Active LOW). When this input is active the contents of the DAC latch are reset to all 0s.", 22 VDD (power) "Positive Supply Voltage.", 23 RFB (in) "Feedback Resistor. This allows access to the amplifier's feedback loop.", 24 VOUT (out) "Output Voltage. Three different output voltage ranges can be chosen: 0 V to 5 V, 0 V to 10 V or -5 V to +5 V."

## AD7245ABRZ-REEL
designator U?
Single 12-Bit LC2MOS DACPORT, -40 to +85 degC, RW-24, Pb-Free, Reel; Generic Part Number: AD7245A; Manufacturer: Analog Devices; PartNumber: AD7245ABRZ-REEL; # DAC Outputs: 1; Max V+: +16.5V; Resolution (Bits): 12; Settling Time: 7µs; Single Supply: Yes; DatasheetVersion: Rev.B; PackageVersion: 060706-A; PackageReference: RW-24; PackageDescription: 24-Lead Standard Small Outline Package [SOIC_W]; Supplier 1: Digi-Key; Supplier Part Number 1: AD7245ABRZ-REEL-ND; Supplier 2: Mouser; Supplier Part Number 2: 584-AD7245ABRZ-R; Packing: Reel; RoHS: Y; Mounting Technology: Surface Mount; Code_JEDEC: MS-013-AD; ComponentLink1Description: Manufacturer URL; ComponentLink1URL: http://www.analog.com/en/index.html; ComponentLink2Description: Datasheet; ComponentLink2URL: http://www.analog.com/static/imported-files/data_sheets/AD7245A_7248A.pdf; ComponentLink3Description: Package Specification; ComponentLink3URL: http://www.analog.com/static/imported-files/packages/33665150946139RW_24.pdf; ComponentLink4Description: Product URL; ComponentLink4URL: http://www.analog.com/en/digital-to-analog-converters/da-converters/ad7245a/products/product.html
footprint RW-24_N (SOIC, 24-Leads, Body 15.4x7.5mm, Pitch 1.27mm, IPC Medium Density)
footprint RW-24_L (SOIC, 24-Leads, Body 15.4x7.5mm, Pitch 1.27mm, IPC High Density)
footprint RW-24_M (SOIC, 24-Leads, Body 15.4x7.5mm, Pitch 1.27mm, IPC Low Density)
pins: 1 VSS (power) "Negative Supply Voltage (0 V for single supply operation).", 2 ROFS (in) "Bipolar Offset Resistor. This provides access to the on-chip application resistors and allows different output voltage ranges.", 3 REF OUT (out) "Reference Output. The on-chip reference is provided at this pin and is used when configuring the part for bipolar outputs.", 4 AGND (power) "Analog Ground.", 5 DB11 (in) "Data Bit 11. Most Significant Bit (MSB).", 6 DB10 (in) "Data Bit 10", 7 DB9 (in) "Data Bit 9", 8 DB8 (in) "Data Bit 8", 9 DB7 (in) "Data Bit 7", 10 DB6 (in) "Data Bit 6", 11 DB5 (in) "Data Bit 5", 12 DGND (power) "Digital Ground.", 13 DB4 (in) "Data Bit 4", 14 DB3 (in) "Data Bit 3", 15 DB2 (in) "Data Bit 2", 16 DB1 (in) "Data Bit 1", 17 DB0 (in) "Data Bit 0. Least Significant Bit (LSB).", 18 ~{CS} (in) "Chip Select Input (Active LOW). The device is selected when this input is active.", 19 ~{WR} (in) "Write Input (Active LOW). This is used in conjunction with C\S\ to write data into the input latch of the AD7245A.", 20 ~{LDAC} (in) "Load DAC Input (Active LOW). This is an asynchronous input which when active transfers data from the input latch to the DAC latch.", 21 ~{CLR} (in) "Clear Input (Active LOW). When this input is active the contents of the DAC latch are reset to all 0s.", 22 VDD (power) "Positive Supply Voltage.", 23 RFB (in) "Feedback Resistor. This allows access to the amplifier's feedback loop.", 24 VOUT (out) "Output Voltage. Three different output voltage ranges can be chosen: 0 V to 5 V, 0 V to 10 V or -5 V to +5 V."

## AD7245AQ
designator U?
Single 12-Bit LC2MOS DACPORT, -40 to +85 degC, Q-24-1, Tube; Generic Part Number: AD7245A; Manufacturer: Analog Devices; PartNumber: AD7245AQ; # DAC Outputs: 1; Max V+: 16.5V; Op Pwr Diss: 210mW; Resolution (Bits): 12; Settling Time: 7µs; Single Supply: Yes; DatasheetVersion: Rev.B; PackageVersion: 100808-A; PackageReference: Q-24-1; PackageDescription: 24-Lead Ceramic Dual In-Line Package [CERDIP]; Supplier 1: Digi-Key; Supplier Part Number 1: AD7245AQ-ND; Supplier 2: Newark; Supplier Part Number 2: 66F5838; Supplier 3: Mouser; Supplier Part Number 3: 584-AD7245AQ; Packing: Tube; RoHS: N; Mounting Technology: Through Hole; ComponentLink1Description: Manufacturer URL; ComponentLink1URL: http://www.analog.com/en/index.html; ComponentLink2Description: Datasheet; ComponentLink2URL: http://www.analog.com/static/imported-files/data_sheets/AD7245A_7248A.pdf; ComponentLink3Description: Package Specification; ComponentLink3URL: http://www.analog.com/static/imported-files/packages/PKG_PDF/CERDIP(Q)/Q_24_1.pdf; ComponentLink4Description: Product URL; ComponentLink4URL: http://www.analog.com/en/digital-to-analog-converters/da-converters/ad7245a/products/product.html
footprint Q-24-1 (DIP, 24-Leads, Row Spacing 7.62mm, Pitch 2.54mm, Body 31.9x6.7mm)
pins: 1 VSS (power) "Negative Supply Voltage (0 V for single supply operation).", 2 ROFS (in) "Bipolar Offset Resistor. This provides access to the on-chip application resistors and allows different output voltage ranges.", 3 REF OUT (out) "Reference Output. The on-chip reference is provided at this pin and is used when configuring the part for bipolar outputs.", 4 AGND (power) "Analog Ground.", 5 DB11 (in) "Data Bit 11. Most Significant Bit (MSB).", 6 DB10 (in) "Data Bit 10", 7 DB9 (in) "Data Bit 9", 8 DB8 (in) "Data Bit 8", 9 DB7 (in) "Data Bit 7", 10 DB6 (in) "Data Bit 6", 11 DB5 (in) "Data Bit 5", 12 DGND (power) "Digital Ground.", 13 DB4 (in) "Data Bit 4", 14 DB3 (in) "Data Bit 3", 15 DB2 (in) "Data Bit 2", 16 DB1 (in) "Data Bit 1", 17 DB0 (in) "Data Bit 0. Least Significant Bit (LSB).", 18 ~{CS} (in) "Chip Select Input (Active LOW). The device is selected when this input is active.", 19 ~{WR} (in) "Write Input (Active LOW). This is used in conjunction with C\S\ to write data into the input latch of the AD7245A.", 20 ~{LDAC} (in) "Load DAC Input (Active LOW). This is an asynchronous input which when active transfers data from the input latch to the DAC latch.", 21 ~{CLR} (in) "Clear Input (Active LOW). When this input is active the contents of the DAC latch are reset to all 0s.", 22 VDD (power) "Positive Supply Voltage.", 23 RFB (in) "Feedback Resistor. This allows access to the amplifier’s feedback loop.", 24 VOUT (out) "Output Voltage. Three different output voltage ranges can be chosen: 0 V to 5 V, 0 V to 10 V or -5 V to +5 V."